# EAGLE library part MIC5821-REV (library edeca)
8-Bit Serial-Input Latched Drivers (output pin order reversed for schematics)
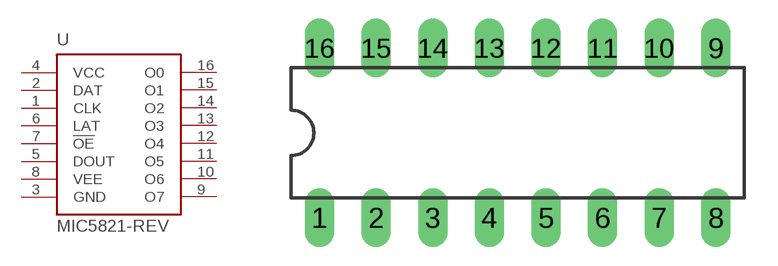
[diagram p4: symbol with the pads of DIL16; footprint DIL16]

Designator prefix -

## MIC5821-REV  [DIL16]
1  CLK
2  DAT  in
3  GND  pwr
4  VCC  pwr
5  DOUT  out
6  LAT
7  !OE
8  VEE  pwr
9  O7
10  O6
11  O5
12  O4
13  O3
14  O2
15  O1
16  O0

## Footprint DIL16 (pad centres in mm)
Dual In Line
drill 0.813 long: 1 -8.89,-3.81; 2 -6.35,-3.81; 3 -3.81,-3.81; 4 -1.27,-3.81; 5 1.27,-3.81; 6 3.81,-3.81; 7 6.35,-3.81; 8 8.89,-3.81; 9 8.89,3.81; 10 6.35,3.81; 11 3.81,3.81; 12 1.27,3.81; 13 -1.27,3.81; 14 -3.81,3.81; 15 -6.35,3.81; 16 -8.89,3.81